# Altium footprint library PCB_Stick.PcbLib: 9 footprints
Each footprint in its own frame and in the unit in brackets; x right, y up, seen from the top. Pads: shape width x height; smd on the part's side, far side on the other; paste and mask are expansions set on the pad; w line width, h text height; cw(c..) or ccw(c..) is an arc to the next point about the centre after c.
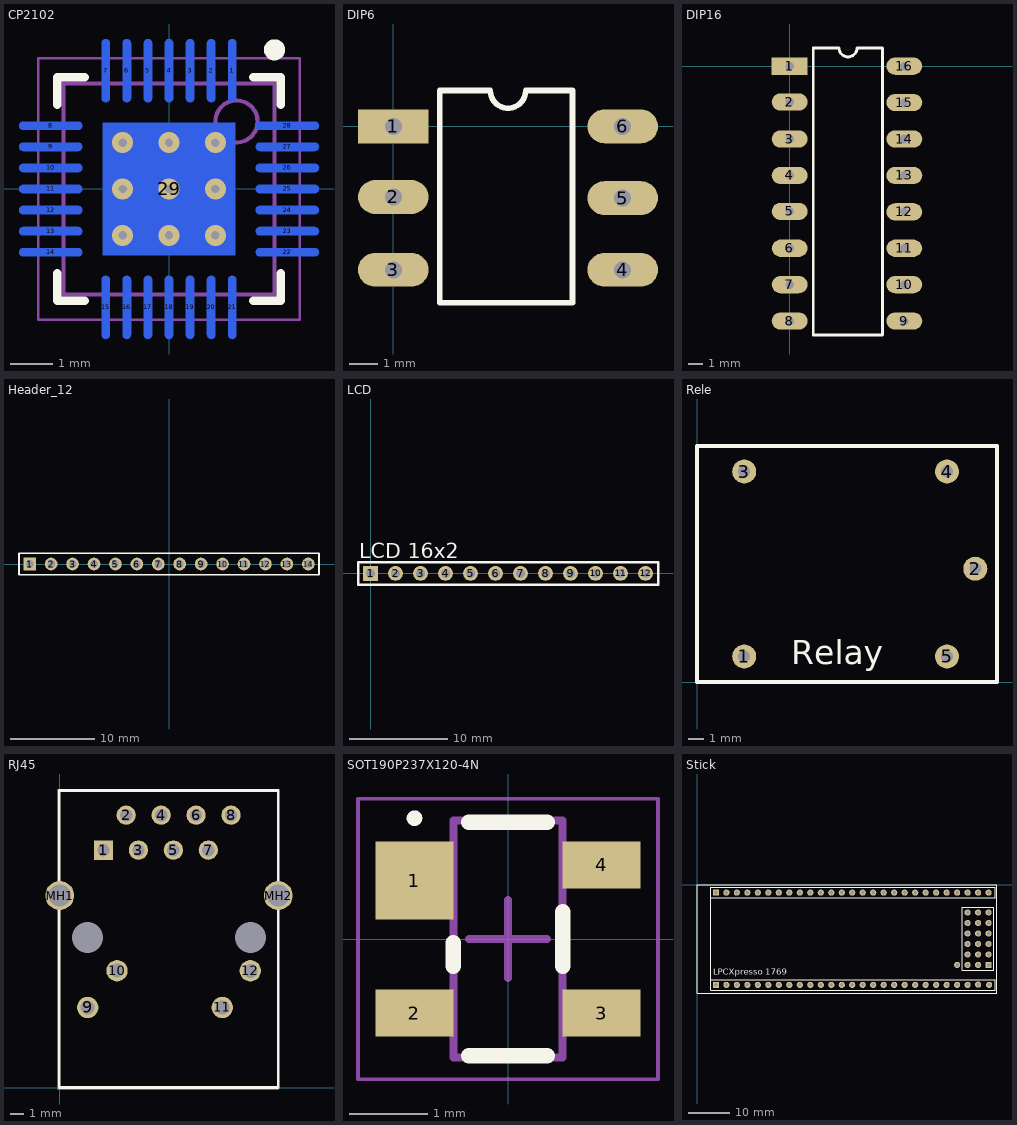
[diagram p0: the footprints below, top view; thin cyan lines are the x and y axes]

## CP2102 [mm]
pads (29):
  oval 0.2x1.5 smd far side: 1(1.5,2.806) 2(1,2.806) 3(0.5,2.806) 4(0,2.806) 5(-0.5,2.806) 6(-1,2.806) 7(-1.5,2.806) 15(-1.5,-2.806) 16(-1,-2.806) 17(-0.5,-2.806) 18(0,-2.806) 19(0.5,-2.806) 20(1,-2.806) 21(1.5,-2.806)
  oval 1.5x0.2 smd far side: 8(-2.806,1.5) 9(-2.806,1) 10(-2.806,0.5) 11(-2.806,0) 12(-2.806,-0.5) 13(-2.806,-1) 14(-2.806,-1.5) 22(2.806,-1.5) 23(2.806,-1) 24(2.806,-0.5) 25(2.806,0) 26(2.806,0.5) 27(2.806,1) 28(2.806,1.5)
  rect 3.13x3.13 smd far side: 29(0,0)
via 1.1,1.1 diameter 0.5 hole 0.2
via 1.1,0 diameter 0.5 hole 0.2
via 1.1,-1.1 diameter 0.5 hole 0.2
via 0,1.1 diameter 0.5 hole 0.2
via 0,0 diameter 0.5 hole 0.2
via 0,-1.1 diameter 0.5 hole 0.2
via -1.1,1.1 diameter 0.5 hole 0.2
via -1.1,0 diameter 0.5 hole 0.2
via -1.1,-1.1 diameter 0.5 hole 0.2
Top Overlay:
  circle w0.25: c2.5,3.3 r0.125
  lines w0.2: -2.65,-2 -2.65,-2.65 -2,-2.65 ; -2.65,2 -2.65,2.65 -2,2.65 ; 2,-2.65 2.65,-2.65 2.65,-2 ; 2,2.65 2.65,2.65 2.65,2
Mechanical 13:
  circle w0.1: c1.6,1.6 r0.5
  lines w0.1: -2.5,-2.5 2.5,-2.5 2.5,2.5 -2.5,2.5 -2.5,-2.5
Mechanical 15:
  lines w0.05: -3.1,-3.1 3.1,-3.1 3.1,3.1 -3.1,3.1 -3.1,-3.1
  lines w0.1: -0.5,0 0.5,0 ; 0,-0.5 0,0.5
3D body: height 1, standoff 0, extent -2.5,-2.5 2.5,2.5

## DIP6 [mm]
pads (6):
  rect 2.5x1.2 hole 0.6: 1(0,0)
  oval 2.5x1.2 hole 0.6: 2(0,-2.5) 3(0,-5.08) 4(8.128,-5.08) 5(8.128,-2.54) 6(8.128,0)
Top Overlay:
  lines w0.2: 1.651,1.27 1.651,-6.25 6.35,-6.25 ; 3.439,1.27 ccw(c4.064,1.27) 4.689,1.27
  lines w0.22: 1.651,1.27 3.429,1.27 ; 4.699,1.27 6.35,1.27 6.35,-6.223

## DIP16 [mm]
pads (16):
  rect 2.5x1.2 hole 0.6: 1(0,0)
  oval 2.5x1.2 hole 0.6: 2(0,-2.5) 3(0,-5.08) 4(0,-7.62) 5(0,-10.127) 6(0,-12.7) 7(0,-15.24) 8(0,-17.78) 9(8.001,-17.78) 10(8.001,-15.24) 11(8.001,-12.7) 12(8.001,-10.16) 13(8.001,-7.62) 14(8.001,-5.08) 15(8.001,-2.54) 16(8.001,0)
Top Overlay:
  lines w0.2: 1.651,1.25 1.651,-18.75 6.477,-18.75 6.477,1.25 ; 1.651,1.27 3.429,1.27 ; 3.449,1.27 ccw(c4.074,1.27) 4.699,1.27 6.477,1.27

## Header_12 [mm] "Header 12 Pin"
pads (14):
  rect 1.5x1.5 hole 0.9: 1(-16.51,0)
  round 1.5 hole 0.9: 2(-13.97,0) 3(-11.43,0) 4(-8.89,0) 5(-6.35,0) 6(-3.81,0) 7(-1.27,0) 8(1.27,0) 9(3.81,0) 10(6.35,0) 11(8.89,0) 12(11.43,0) 13(13.97,0) 14(16.51,0)
Top Overlay:
  lines w0.2: -17.78,-1.27 -17.78,1.27 -15.875,1.27 17.78,1.27 17.78,-1.27 -17.78,-1.27

## LCD [mm] "LCD Display de 16x2 Caracter"
pads (12):
  rect 1.5x1.5 hole 0.9: 1(0,0)
  round 1.5 hole 0.9: 2(2.54,0) 3(5.08,0) 4(7.62,0) 5(10.16,0) 6(12.7,0) 7(15.24,0) 8(17.78,0) 9(20.32,0) 10(22.86,0) 11(25.4,0) 12(27.94,0)
Top Overlay:
  lines w0.254: -1.27,-1.143 -1.27,1.143 29.21,1.143 29.21,-1.143 -1.27,-1.143
  text "LCD 16x2" at -1.143,1.524 h1.52

## Rele [mil] "Rele - 5pin"
pads (5):
  round 60 hole 30: 1(118.11,64.17) 2(695.67,283.46) 3(118.11,526.38) 4(625,526.38) 5(625,64.17)
Top Overlay:
  lines w10: 0,0 750,0 750,590.55 0,590.55 0,0
  text "Relay" at 235,45 h60

## RJ45 [mm] "RJ45 - Ethernet"
pads (16):
  rect 1.4x1.4 hole 0.89: 1(3.175,17.272)
  round 1.4 hole 0.89: 2(4.826,19.812) 3(5.715,17.272) 4(7.366,19.812) 5(8.255,17.272) 6(9.906,19.812) 7(10.795,17.272) 8(12.446,19.812)
  round 1.55 hole 1.02: 9(2.032,5.842) 10(4.165,8.513) 11(11.811,5.842) 12(13.843,8.509)
  round 2.1 hole 1.6: MH1(0.002,13.972) MH2(15.873,13.972)
  round 2 hole 2.25 unplated: ""(2.032,10.922) ""(13.843,10.922)
Top Overlay:
  lines w0.2: -0.034,0.022 -0.034,21.612 15.875,21.612 15.875,0.022 -0.034,0.022
Mechanical 13:
  circle w0.1: c7.366,19.812 r0.325
  circle w0.1: c9.906,19.812 r0.325
  circle w0.1: c12.446,19.812 r0.325
  circle w0.1: c5.715,17.272 r0.325
  circle w0.1: c8.255,17.272 r0.325
  circle w0.1: c10.795,17.272 r0.325
  circle w0.1: c3.175,17.272 r0.325
  circle w0.1: c4.826,19.812 r0.325
  circle w0.1: c0.002,13.972 r0.675
  circle w0.1: c2.032,5.842 r0.375
  lines w0.1: -0.034,0.022 15.875,0.022 15.875,21.612 -0.034,21.612 -0.034,0.022
Mechanical 15:
  lines w0.05: -0.134,-0.078 -0.134,21.712 15.875,21.712 15.875,-0.078 -0.134,-0.078
  lines w0.1: 12.835,10.922 13.835,10.922 ; 13.335,10.422 13.335,11.422
3D body: height 0, standoff -3.05, extent 7.042,19.488 7.69,20.136
3D body: height 0, standoff -3.05, extent 9.582,19.488 10.23,20.136
3D body: height 0, standoff -3.05, extent 12.122,19.488 12.77,20.136
3D body: height 0, standoff -3.05, extent 5.391,16.948 6.039,17.596
3D body: height 0, standoff -3.05, extent 7.931,16.948 8.579,17.596
3D body: height 0, standoff -3.05, extent 10.471,16.948 11.119,17.596
3D body: height 0, standoff -3.05, extent 2.851,16.948 3.499,17.596
3D body: height 0, standoff -3.05, extent 4.502,19.488 5.15,20.136
3D body: height 0, standoff -3.05, extent -0.672,13.298 0.676,14.646
3D body: height 0, standoff -3.05, extent 1.658,5.468 2.407,6.217

## SOT190P237X120-4N [mm] "SOT143, 4-Leads, Body 2,92x2,37mm, Pitch 1,90mm, IPC Medium Density"
height 1.2
pads (4):
  rect 1x1 smd: 1(-1.2,0.75)
  rect 1x0.6 smd: 2(-1.2,-0.95) 3(1.2,-0.95) 4(1.2,0.95)
Top Overlay:
  circle w0.1: c-1.2,1.55 r0.05
  lines w0.2: -0.7,-0.35 -0.7,-0.05 ; -0.5,-1.5 0.5,-1.5 ; -0.5,1.5 0.5,1.5 ; 0.7,-0.35 0.7,0.35
Mechanical 13:
  lines w0.1: -0.7,-1.52 -0.7,1.52 0.7,1.52 0.7,-1.52 -0.7,-1.52
Mechanical 15:
  lines w0.05: -1.925,-1.8 -1.925,1.8 1.925,1.8 1.925,-1.8 -1.925,-1.8
  lines w0.1: -0.5,0 0.5,0 ; 0,-0.5 0,0.5
3D body: height 1.2, standoff 0.15, extent -0.7,-1.52 0.7,1.52

## Stick [mm] "Connector; Header Stick"
pads (73):
  rect 1.5x1.5 hole 0.9: 1(4.572,-24.257) 28(4.572,-1.905) 68(70.612,-19.431)
  round 1.5 hole 0.9: 2(7.112,-24.257) 3(9.652,-24.257) 4(12.192,-24.257) 5(14.732,-24.257) 6(17.272,-24.257) 7(19.812,-24.257) 8(22.352,-24.257) 9(24.892,-24.257) 10(27.432,-24.257) 11(29.972,-24.257) 12(32.512,-24.257) 13(35.052,-24.257) 14(37.592,-24.257) 15(40.132,-24.257) 16(42.672,-24.257) 17(45.212,-24.257) 18(47.752,-24.257) 19(50.292,-24.257) 20(52.832,-24.257) 21(55.372,-24.257) 22(57.912,-24.257) 23(60.452,-24.257) 24(62.992,-24.257) 25(65.532,-24.257) 26(68.072,-24.183) 27(70.739,-24.257) 29(7.112,-1.905) 30(9.652,-1.905) 31(12.192,-1.905) 32(14.732,-1.905) 33(17.272,-1.905) 34(19.812,-1.905) 35(22.352,-1.905) 36(24.892,-1.905) 37(27.432,-1.905) 38(29.972,-1.905) 39(32.512,-1.905) 40(35.052,-1.905) 41(37.592,-1.905) 42(40.132,-1.905) 43(42.672,-1.905) 44(45.212,-1.905) 45(47.752,-1.905) 46(50.292,-1.905) 47(52.832,-1.905) 48(55.372,-1.905) 49(57.912,-1.905) 50(60.452,-1.905) 51(62.992,-1.905) 52(65.532,-1.905) 53(68.072,-1.905) 54(70.612,-1.905) 55(62.992,-19.431) 56(65.532,-19.431) 57(65.532,-16.891) 58(65.532,-14.351) 59(65.532,-11.811) 60(65.532,-9.271) 61(65.532,-6.731) 62(68.072,-19.431) 63(68.072,-16.891) 64(68.072,-14.351) 65(68.072,-11.811) 66(68.072,-9.271) 67(68.072,-6.731) 69(70.612,-16.891) 70(70.612,-14.351) 71(70.612,-11.811) 72(70.612,-9.271) 73(70.612,-6.731)
Top Overlay:
  lines w0.2: 3.302,-22.987 3.302,-25.527 72.263,-25.527 72.263,-22.987 5.207,-22.987 3.302,-22.987 ; 3.302,-22.987 3.302,-3.175 ; 3.302,-3.175 3.302,-0.635 5.207,-0.635 72.263,-0.635 72.263,-3.175 3.302,-3.175
  lines w0.254: 0,-26.289 0,0 72.644,0 72.644,-26.289 0,-26.289 ; 64.262,-20.701 71.882,-20.701 71.882,-5.461 64.262,-5.461 64.262,-20.701
  text "LPCXpresso 1769" at 3.937,-21.844 h1.52